# Altium schematic symbol library KB-Header_14.SchLib: 1 symbol
Pins are listed as number, name and electrical type; pins without a type are passive.

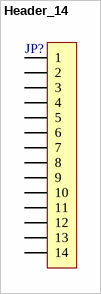
[diagram p0: symbol Header_14]

## Header_14
designator JP?, comment CON-14P  (value not drawn)
14P连接器
pins: 1, 2, 3, 4, 5, 6, 7, 8, 9, 10, 11, 12, 13, 14